# Altium schematic symbol library RC0603JR-0715KL.SchLib: 1 symbol
Pins are listed as number, name and electrical type; pins without a type are passive.

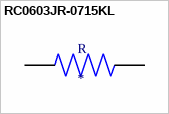
[diagram p0: symbol RC0603JR-0715KL]

## RC0603JR-0715KL
designator R
Res Thick Film 0603 15K Ohm 5% 0.1W_1/10W_ Â±100ppm/C Molded SMD Paper T/R; MF: Yageo; MP: RC0603JR-0715KL; Value: *; Price: None; SnapEDA_Link: https://www.snapeda.com/parts/RC0603JR-0715KL/Yageo/view-part/105937/?ref=snap; Package: 1608 Yageo; Availability: Unavailable
footprint RESC1608X55N
pins: 1, 2